# Altium integrated library RES.IntLib: 2 symbols
Pins are listed as number, name and electrical type; pins without a type are passive.

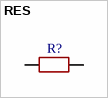
[diagram p0: symbol RES]

## RES
designator R?
footprint RES025W
footprint RES1W
pins: 1, 2


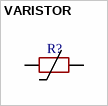
[diagram p1: symbol VARISTOR]

## VARISTOR
designator R?
footprint VARISTOR
footprint VARISTOR
pins: 1, 2